# EAGLE library part PI6ULS5V9515A (library MIDI Signal Conditioner Parts)
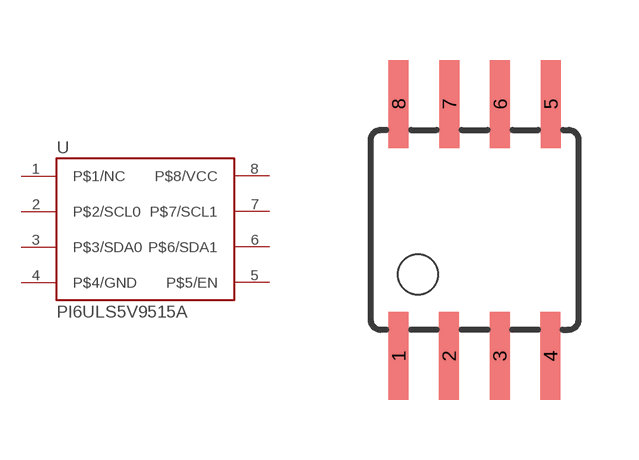
[diagram p5: symbol with the pads of PI6ULS5V9515A-SO8; footprint PI6ULS5V9515A-SO8]

Designator prefix -

## PI6ULS5V9515A  [PI6ULS5V9515A-SO8]
1  P$1/NC
2  P$2/SCL0
3  P$3/SDA0
4  P$4/GND
5  P$5/EN
6  P$6/SDA1
7  P$7/SCL1
8  P$8/VCC

## Footprint PI6ULS5V9515A-SO8 (pad centres in mm)
Wide Plastic Gull Wing Small Outline Package
smd 0.5 x 2.2: 1 -1.905,-3.154; 2 -0.645,-3.154; 3 0.625,-3.154; 4 1.895,-3.154; 5 1.905,3.154; 6 0.635,3.154; 7 -0.635,3.154; 8 -1.905,3.154